# Altium integrated library CSD17577Q3A.IntLib: 1 symbol
Pins are listed as number, name and electrical type; pins without a type are passive.

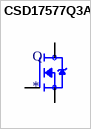
[diagram p0: symbol CSD17577Q3A]

## CSD17577Q3A
designator Q
N-Channel 30V 35A _Ta_ 2.8W _Ta_, 53W _Tc_ Surface Mount 8-VSONP _3x3.15_; MP: CSD17577Q3A; MF: Texas Instruments; SnapEDA_Link: https://www.snapeda.com/parts/CSD17577Q3A/Texas%20Instruments/view-part/486367/?ref=snap; Availability: Unavailable; Package: VSON-8 Texas Instruments; Value: *; Price: None
footprint TRANS_CSD19502Q5BT
footprint MOSFET_CSD17577Q3A
pins: 1 S, 2 S, 3 S, 4 G, 9 D, 9_1 D, 9_2 D, 9_3 D, 9_4 D, 9_5 D, 9_6 D, 9_7 D